# Altium footprint library Mechanical_3D.PcbLib: 98 footprints (part 3 of 7)
Each footprint in its own frame and in the unit in brackets; x right, y up, seen from the top. Pads: shape width x height; smd on the part's side, far side on the other; paste and mask are expansions set on the pad; w line width, h text height; cw(c..) or ccw(c..) is an arc to the next point about the centre after c.
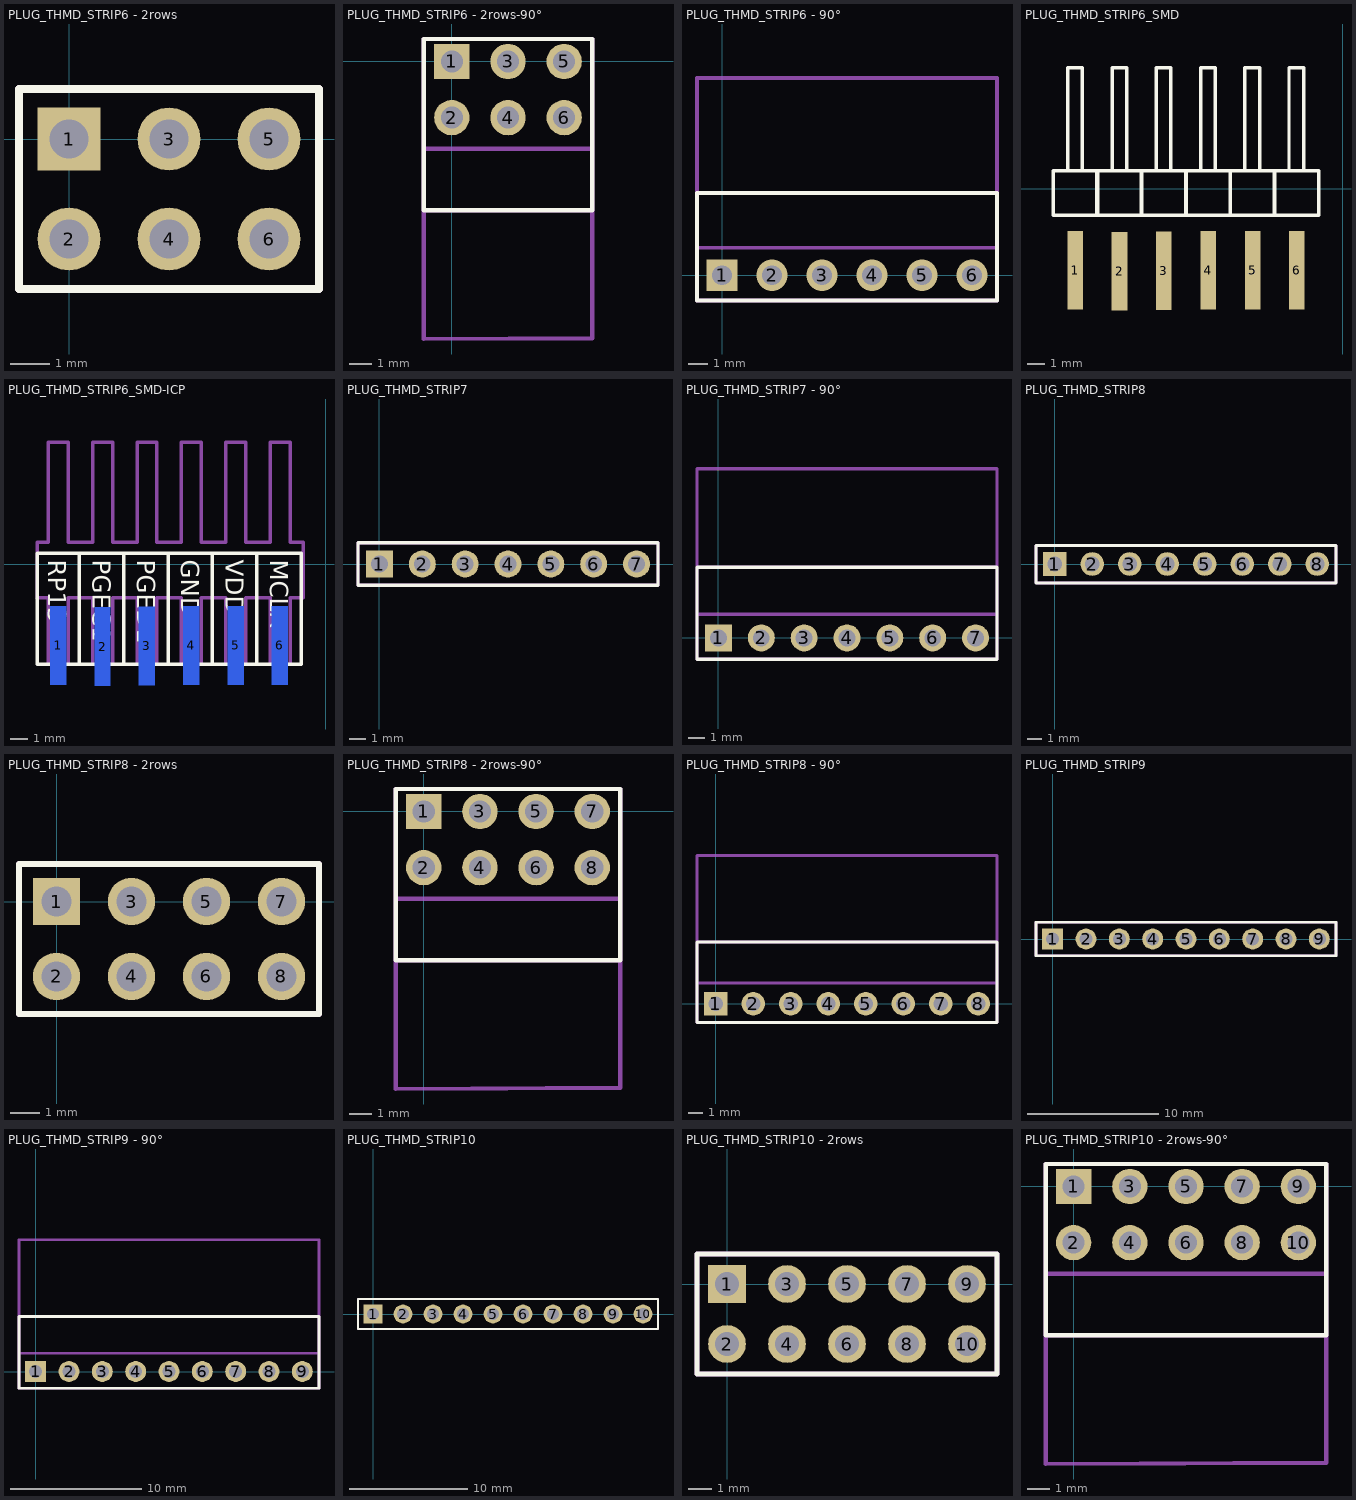
[diagram p2: the footprints below, top view; thin cyan lines are the x and y axes]

## PLUG_THMD_STRIP6 - 2rows [mm]
pads (6):
  rect 1.6x1.6 / inner round 1.524 / far side rect 1.6x1.6 hole 1 paste+0 mask+0: 1(0,0)
  round 1.6 / inner round 1.524 / far side round 1.6 hole 1 paste+0 mask+0: 2(0,-2.54) 3(2.54,0) 4(2.54,-2.54) 5(5.08,0) 6(5.08,-2.54)
Top Overlay:
  lines w0.203: -1.27,-3.81 -1.27,1.27 6.35,1.27 6.35,-3.81 -1.27,-3.81
Mechanical 13:
  lines w0.203: -1.27,-3.81 -1.27,1.27 6.35,1.27 6.35,-3.81 -1.27,-3.81
  text "1" at -2.156,-0.448 h0.95
3D body "Stripline_2row.stp": height 8.57, standoff -2.97, extent 3.81,-3.81 6.35,1.27
3D body "Stripline_2row.stp": height 8.57, standoff -2.97, extent -1.27,-3.81 1.27,1.27
3D body "Stripline_2row.stp": height 8.57, standoff -2.97, extent 1.27,-3.81 3.81,1.27

## PLUG_THMD_STRIP6 - 2rows-90° [mm]
pads (6):
  rect 1.6x1.6 / inner round 1.524 / far side rect 1.6x1.6 hole 1 paste+0 mask+0: 1(0,0)
  round 1.6 / inner round 1.524 / far side round 1.6 hole 1 paste+0 mask+0: 2(0,-2.54) 3(2.54,0) 4(2.54,-2.54) 5(5.08,0) 6(5.08,-2.54)
Top Overlay:
  lines w0.203: -1.27,-6.731 6.35,-6.731 6.35,1.016 -1.27,1.016 -1.27,-6.731
Mechanical 13:
  lines w0.2: -1.27,-6.731 6.35,-6.731 6.35,-3.937 -1.27,-3.937
  text "1" at -2.156,-0.448 h0.95
Mechanical 15:
  lines w0.203: -1.27,-12.548 6.35,-12.509 6.35,1.016 -1.27,1.016 -1.27,-12.548
3D body "Stripline_2row90_deg.stp": height 5.14, standoff -2.94, extent -1.27,-12.57 1.27,0.33
3D body "Stripline_2row90_deg.stp": height 5.14, standoff -2.94, extent 1.27,-12.57 3.81,0.33
3D body "Stripline_2row90_deg.stp": height 5.14, standoff -2.94, extent 3.81,-12.57 6.35,0.33

## PLUG_THMD_STRIP6 - 90° [mm]
pads (6):
  rect 1.6x1.6 / inner round 1.524 / far side rect 1.6x1.6 hole 1 paste+0 mask+0: 1(0,0)
  round 1.6 / inner round 1.524 / far side round 1.6 hole 1 paste+0 mask+0: 2(2.54,0) 3(5.08,0) 4(7.62,0) 5(10.16,0) 6(12.7,0)
Top Overlay:
  lines w0.203: -1.27,1.27 -1.27,-1.27 ; 3.81,-1.27 -1.27,-1.27 ; -1.27,-1.27 -1.27,4.191 13.97,4.191 13.97,-1.27 -1.27,-1.27
Mechanical 13:
  lines w0.2: -1.27,1.397 -1.27,4.191 13.97,4.191 13.97,1.397 -1.27,1.397
  text "1" at -2.156,-0.448 h0.95
Mechanical 15:
  lines w0.203: -1.27,-1.27 -1.27,10.033 13.97,10.033 13.97,-1.27 -1.27,-1.27
3D body "Stripline_1row90_deg.stp": height 2.54, standoff -3, extent 11.43,-0.354 13.97,10.006
3D body "Stripline_1row90_deg.stp": height 2.54, standoff -3, extent 8.89,-0.354 11.43,10.006
3D body "Stripline_1row90_deg.stp": height 2.54, standoff -3, extent 6.35,-0.354 8.89,10.006
3D body "Stripline_1row90_deg.stp": height 2.54, standoff -3, extent 3.81,-0.354 6.35,10.006
3D body "Stripline_1row90_deg.stp": height 2.54, standoff -3, extent 1.27,-0.354 3.81,10.006
3D body "Stripline_1row90_deg.stp": height 2.54, standoff -3, extent -1.27,-0.354 1.27,10.006

## PLUG_THMD_STRIP6_SMD [mm] "2,54mm pitch"
pads (6):
  rect 0.9x4.5 smd mask+0.05: 1(-15.3,-4.65) 2(-12.77,-4.71) 3(-10.24,-4.68) 4(-7.69,-4.65) 5(-5.15,-4.65) 6(-2.63,-4.65)
Top Overlay:
  lines w0.2: -16.57,-1.52 -14.06,-1.52 -14.06,1.04 -16.57,1.04 ; -15.74,1.04 -15.74,6.94 -14.9,6.94 -14.9,1.14 ; -14.03,-1.52 -11.52,-1.52 -11.52,1.04 -14.03,1.04 ; -13.2,1.04 -13.2,6.94 -12.36,6.94 -12.36,1.14 ; -11.5,-1.52 -8.99,-1.52 -8.99,1.04 -11.5,1.04 ; -10.67,1.04 -10.67,6.94 -9.83,6.94 -9.83,1.14 ; -8.95,-1.52 -6.44,-1.52 -6.44,1.04 -8.95,1.04 ; -8.12,1.04 -8.12,6.94 -7.28,6.94 -7.28,1.14 ; -6.42,-1.52 -3.91,-1.52 -3.91,1.04 -6.42,1.04 ; -5.59,1.04 -5.59,6.94 -4.75,6.94 -4.75,1.14 ; -3.92,-1.52 -3.92,1.04 ; -3.9,-1.52 -1.39,-1.52 ; -3.9,1.04 -1.39,1.04 ; -3.07,1.04 -3.07,6.94 -2.23,6.94 -2.23,1.14 ; -1.36,-1.52 -1.36,1.04
  lines w0.203: -16.57,-1.52 -16.57,1.04 ; -14.03,-1.52 -14.03,1.04 ; -11.5,-1.52 -11.5,1.04 ; -8.95,-1.52 -8.95,1.04 ; -6.42,-1.52 -6.42,1.04 ; -3.9,-1.52 -3.9,1.04

## PLUG_THMD_STRIP6_SMD-ICP [mm] "2,54mm pitch"
pads (6):
  rect 0.9x4.5 smd far side mask+0.05: 1(-15.3,-4.65) 2(-12.77,-4.71) 3(-10.24,-4.68) 4(-7.69,-4.65) 5(-5.15,-4.65) 6(-2.63,-4.65)
Top Overlay:
  lines w0.2: -14.097,-5.715 -14.097,0.635 ; -11.557,-5.715 -11.557,0.635 ; -9.017,-5.715 -9.017,0.635 ; -6.477,-5.715 -6.477,0.635 ; -3.937,-5.715 -3.937,0.635 ; -16.51,-5.715 -1.397,-5.715 -1.397,0.635 -16.51,0.635 -16.51,-5.715
  text "RP13" at -15.875,0.254 h1.02
  text "PGEC1" at -13.335,0.254 h1.02
  text "PGED1" at -10.795,0.254 h1.02
  text "GND" at -8.255,0.254 h1.02
  text "VDD" at -5.715,0.254 h1.02
  text "MCLR" at -3.175,0.254 h1.02
Bottom Overlay:
  lines w0.2: -16.57,-1.52 -14.06,-1.52 -14.06,1.04 -16.57,1.04 ; -14.03,-1.52 -11.52,-1.52 -11.52,1.04 -14.03,1.04 ; -11.5,-1.52 -8.99,-1.52 -8.99,1.04 -11.5,1.04 ; -8.95,-1.52 -6.44,-1.52 -6.44,1.04 -8.95,1.04 ; -6.42,-1.52 -3.91,-1.52 -3.91,1.04 -6.42,1.04 ; -3.92,-1.52 -3.92,1.04 ; -3.9,-1.52 -1.39,-1.52 ; -3.9,1.04 -1.39,1.04 ; -1.36,-1.52 -1.36,1.04
  lines w0.203: -16.57,-1.52 -16.57,1.04 ; -14.03,-1.52 -14.03,1.04 ; -11.5,-1.52 -11.5,1.04 ; -8.95,-1.52 -8.95,1.04 ; -6.42,-1.52 -6.42,1.04 ; -3.9,-1.52 -3.9,1.04
Mechanical 13:
  lines w0.2: -16.51,-1.905 -15.875,-1.905 -15.875,-5.715 -14.732,-5.715 -14.732,-1.905 -13.335,-1.905 -13.335,-5.715 -12.192,-5.715 -12.192,-1.905 -10.795,-1.905 -10.795,-5.715 -9.652,-5.715 -9.652,-1.905 -8.255,-1.905 -8.255,-5.715 -7.112,-5.715 -7.112,-1.905 -5.715,-1.905 -5.715,-5.715 -4.572,-5.715 -4.572,-1.905 -3.175,-1.905 -3.175,-5.715 -2.032,-5.715 -2.032,-1.905 -1.27,-1.905 -1.27,1.27 -2.032,1.27 -2.032,6.985 -3.175,6.985 -3.175,1.27 -4.572,1.27 -4.572,6.985 -5.715,6.985 -5.715,1.27 -7.112,1.27 -7.112,6.985 -8.255,6.985 -8.255,1.27 -9.652,1.27 -9.652,6.985 -10.795,6.985 -10.795,1.27 -12.192,1.27 -12.192,6.985 -13.335,6.985 -13.335,1.27 -14.732,1.27 -14.732,6.985 -15.875,6.985 -15.875,1.27 -16.51,1.27 -16.51,-1.905

## PLUG_THMD_STRIP7 [mm]
pads (7):
  rect 1.6x1.6 / inner round 1.524 / far side rect 1.6x1.6 hole 1 paste+0 mask+0: 1(0,0)
  round 1.6 / inner round 1.524 / far side round 1.6 hole 1 paste+0 mask+0: 2(2.54,0) 3(5.08,0) 4(7.62,0) 5(10.16,0) 6(12.7,0) 7(15.24,0)
Top Overlay:
  lines w0.203: -1.27,-1.27 16.51,-1.27 16.51,1.27 -1.27,1.27 -1.27,-1.27
Mechanical 13:
  lines w0.203: -1.27,-1.27 16.51,-1.27 16.51,1.27 -1.27,1.27 -1.27,-1.27
  text "1" at -2.156,-0.448 h0.95
3D body "Stripline_1.stp": height 8.57, standoff -2.97, extent 11.43,-1.27 13.97,1.27
3D body "Stripline_1.stp": height 8.57, standoff -2.97, extent -1.27,-1.27 1.27,1.27
3D body "Stripline_1.stp": height 8.57, standoff -2.97, extent 1.27,-1.27 3.81,1.27
3D body "Stripline_1.stp": height 8.57, standoff -2.97, extent 3.81,-1.27 6.35,1.27
3D body "Stripline_1.stp": height 8.57, standoff -2.97, extent 6.35,-1.27 8.89,1.27
3D body "Stripline_1.stp": height 8.57, standoff -2.97, extent 8.89,-1.27 11.43,1.27
3D body "Stripline_1.stp": height 8.57, standoff -2.97, extent 13.97,-1.27 16.51,1.27

## PLUG_THMD_STRIP7 - 90° [mm]
pads (7):
  rect 1.6x1.6 / inner round 1.524 / far side rect 1.6x1.6 hole 1 paste+0 mask+0: 1(0,0)
  round 1.6 / inner round 1.524 / far side round 1.6 hole 1 paste+0 mask+0: 2(2.54,0) 3(5.08,0) 4(7.62,0) 5(10.16,0) 6(12.7,0) 7(15.24,0)
Top Overlay:
  lines w0.203: -1.27,1.27 -1.27,-1.27 ; 3.81,-1.27 -1.27,-1.27 ; -1.27,-1.27 -1.27,4.191 16.51,4.191 16.51,-1.27 -1.27,-1.27
Mechanical 13:
  lines w0.2: -1.27,1.397 -1.27,4.191 16.51,4.191 16.51,1.397 -1.27,1.397
  text "1" at -2.156,-0.448 h0.95
Mechanical 15:
  lines w0.203: -1.27,-1.27 -1.27,10.033 16.51,10.033 16.51,-1.27 -1.27,-1.27
3D body "Stripline_1row90_deg.stp": height 2.54, standoff -3, extent 13.97,-0.354 16.51,10.006
3D body "Stripline_1row90_deg.stp": height 2.54, standoff -3, extent 11.43,-0.354 13.97,10.006
3D body "Stripline_1row90_deg.stp": height 2.54, standoff -3, extent 8.89,-0.354 11.43,10.006
3D body "Stripline_1row90_deg.stp": height 2.54, standoff -3, extent 6.35,-0.354 8.89,10.006
3D body "Stripline_1row90_deg.stp": height 2.54, standoff -3, extent 3.81,-0.354 6.35,10.006
3D body "Stripline_1row90_deg.stp": height 2.54, standoff -3, extent 1.27,-0.354 3.81,10.006
3D body "Stripline_1row90_deg.stp": height 2.54, standoff -3, extent -1.27,-0.354 1.27,10.006

## PLUG_THMD_STRIP8 [mm]
pads (8):
  rect 1.6x1.6 / inner round 1.524 / far side rect 1.6x1.6 hole 1 paste+0 mask+0: 1(0,0)
  round 1.6 / inner round 1.524 / far side round 1.6 hole 1 paste+0 mask+0: 2(2.54,0) 3(5.08,0) 4(7.62,0) 5(10.16,0) 6(12.7,0) 7(15.24,0) 8(17.78,0)
Top Overlay:
  lines w0.203: -1.27,-1.27 -1.27,1.27 19.05,1.27 19.05,-1.27 -1.27,-1.27
Mechanical 13:
  lines w0.203: -1.27,-1.27 -1.27,1.27 19.05,1.27 19.05,-1.27 -1.27,-1.27
  text "1" at -2.156,-0.448 h0.95
3D body "Stripline_1.stp": height 8.57, standoff -2.97, extent 13.97,-1.27 16.51,1.27
3D body "Stripline_1.stp": height 8.57, standoff -2.97, extent 8.89,-1.27 11.43,1.27
3D body "Stripline_1.stp": height 8.57, standoff -2.97, extent 6.35,-1.27 8.89,1.27
3D body "Stripline_1.stp": height 8.57, standoff -2.97, extent 3.81,-1.27 6.35,1.27
3D body "Stripline_1.stp": height 8.57, standoff -2.97, extent 1.27,-1.27 3.81,1.27
3D body "Stripline_1.stp": height 8.57, standoff -2.97, extent -1.27,-1.27 1.27,1.27
3D body "Stripline_1.stp": height 8.57, standoff -2.97, extent 11.43,-1.27 13.97,1.27
3D body "Stripline_1.stp": height 8.57, standoff -2.97, extent 16.51,-1.27 19.05,1.27

## PLUG_THMD_STRIP8 - 2rows [mm]
pads (8):
  rect 1.6x1.6 / inner round 1.524 / far side rect 1.6x1.6 hole 1 paste+0 mask+0: 1(0,0)
  round 1.6 / inner round 1.524 / far side round 1.6 hole 1 paste+0 mask+0: 2(0,-2.54) 3(2.54,0) 4(2.54,-2.54) 5(5.08,0) 6(5.08,-2.54) 7(7.62,0) 8(7.62,-2.54)
Top Overlay:
  lines w0.203: -1.27,-3.81 -1.27,1.27 8.89,1.27 8.89,-3.81 -1.27,-3.81
Mechanical 13:
  lines w0.203: -1.27,-3.81 -1.27,1.27 8.89,1.27 8.89,-3.81 -1.27,-3.81
  text "1" at -2.156,-0.448 h0.95
3D body "Stripline_2row.stp": height 8.57, standoff -2.97, extent 3.81,-3.81 6.35,1.27
3D body "Stripline_2row.stp": height 8.57, standoff -2.97, extent -1.27,-3.81 1.27,1.27
3D body "Stripline_2row.stp": height 8.57, standoff -2.97, extent 1.27,-3.81 3.81,1.27
3D body "Stripline_2row.stp": height 8.57, standoff -2.97, extent 6.35,-3.81 8.89,1.27

## PLUG_THMD_STRIP8 - 2rows-90° [mm]
pads (8):
  rect 1.6x1.6 / inner round 1.524 / far side rect 1.6x1.6 hole 1 paste+0 mask+0: 1(0,0)
  round 1.6 / inner round 1.524 / far side round 1.6 hole 1 paste+0 mask+0: 2(0,-2.54) 3(2.54,0) 4(2.54,-2.54) 5(5.08,0) 6(5.08,-2.54) 7(7.62,0) 8(7.62,-2.54)
Top Overlay:
  lines w0.203: -1.27,-6.731 -1.27,1.016 8.89,1.016 8.89,-6.731 -1.27,-6.731
Mechanical 13:
  lines w0.2: -1.27,-6.731 8.89,-6.731 8.89,-3.937 -1.27,-3.937 -1.27,-6.731
  text "1" at -2.156,-0.448 h0.95
Mechanical 15:
  lines w0.203: -1.27,-12.548 -1.27,1.016 8.89,1.016 8.89,-12.497 -1.27,-12.548
3D body "Stripline_2row90_deg.stp": height 5.14, standoff -2.94, extent 3.81,-12.57 6.35,0.33
3D body "Stripline_2row90_deg.stp": height 5.14, standoff -2.94, extent 1.27,-12.57 3.81,0.33
3D body "Stripline_2row90_deg.stp": height 5.14, standoff -2.94, extent -1.27,-12.57 1.27,0.33
3D body "Stripline_2row90_deg.stp": height 5.14, standoff -2.94, extent 6.35,-12.57 8.89,0.33

## PLUG_THMD_STRIP8 - 90° [mm]
pads (8):
  rect 1.6x1.6 / inner round 1.524 / far side rect 1.6x1.6 hole 1 paste+0 mask+0: 1(0,0)
  round 1.6 / inner round 1.524 / far side round 1.6 hole 1 paste+0 mask+0: 2(2.54,0) 3(5.08,0) 4(7.62,0) 5(10.16,0) 6(12.7,0) 7(15.24,0) 8(17.78,0)
Top Overlay:
  lines w0.203: -1.27,1.27 -1.27,-1.27 ; 3.81,-1.27 -1.27,-1.27 ; -1.27,-1.27 19.05,-1.27 19.05,4.191 -1.27,4.191 -1.27,-1.27
Mechanical 13:
  lines w0.2: -1.27,1.397 19.05,1.397 19.05,4.191 -1.27,4.191
  text "1" at -2.156,-0.448 h0.95
Mechanical 15:
  lines w0.203: -1.27,-1.27 19.05,-1.27 19.05,10.033 -1.27,10.033 -1.27,-1.27
3D body "Stripline_1row90_deg.stp": height 2.54, standoff -3, extent -1.27,-0.354 1.27,10.006
3D body "Stripline_1row90_deg.stp": height 2.54, standoff -3, extent 1.27,-0.354 3.81,10.006
3D body "Stripline_1row90_deg.stp": height 2.54, standoff -3, extent 3.81,-0.354 6.35,10.006
3D body "Stripline_1row90_deg.stp": height 2.54, standoff -3, extent 6.35,-0.354 8.89,10.006
3D body "Stripline_1row90_deg.stp": height 2.54, standoff -3, extent 8.89,-0.354 11.43,10.006
3D body "Stripline_1row90_deg.stp": height 2.54, standoff -3, extent 11.43,-0.354 13.97,10.006
3D body "Stripline_1row90_deg.stp": height 2.54, standoff -3, extent 13.97,-0.354 16.51,10.006
3D body "Stripline_1row90_deg.stp": height 2.54, standoff -3, extent 16.51,-0.354 19.05,10.006

## PLUG_THMD_STRIP9 [mm]
pads (9):
  rect 1.6x1.6 / inner round 1.524 / far side rect 1.6x1.6 hole 1 paste+0 mask+0: 1(0,0)
  round 1.6 / inner round 1.524 / far side round 1.6 hole 1 paste+0 mask+0: 2(2.54,0) 3(5.08,0) 4(7.62,0) 5(10.16,0) 6(12.7,0) 7(15.24,0) 8(17.78,0) 9(20.32,0)
Top Overlay:
  lines w0.203: -1.27,-1.27 21.59,-1.27 21.59,1.27 -1.27,1.27 -1.27,-1.27
Mechanical 13:
  lines w0.203: -1.27,-1.27 21.59,-1.27 21.59,1.27 -1.27,1.27 -1.27,-1.27
  text "1" at -2.156,-0.448 h0.95
3D body "Stripline_1.stp": height 8.57, standoff -2.97, extent 16.51,-1.27 19.05,1.27
3D body "Stripline_1.stp": height 8.57, standoff -2.97, extent 11.43,-1.27 13.97,1.27
3D body "Stripline_1.stp": height 8.57, standoff -2.97, extent -1.27,-1.27 1.27,1.27
3D body "Stripline_1.stp": height 8.57, standoff -2.97, extent 1.27,-1.27 3.81,1.27
3D body "Stripline_1.stp": height 8.57, standoff -2.97, extent 3.81,-1.27 6.35,1.27
3D body "Stripline_1.stp": height 8.57, standoff -2.97, extent 6.35,-1.27 8.89,1.27
3D body "Stripline_1.stp": height 8.57, standoff -2.97, extent 8.89,-1.27 11.43,1.27
3D body "Stripline_1.stp": height 8.57, standoff -2.97, extent 13.97,-1.27 16.51,1.27
3D body "Stripline_1.stp": height 8.57, standoff -2.97, extent 19.05,-1.27 21.59,1.27

## PLUG_THMD_STRIP9 - 90° [mm]
pads (9):
  rect 1.6x1.6 / inner round 1.524 / far side rect 1.6x1.6 hole 1 paste+0 mask+0: 1(0,0)
  round 1.6 / inner round 1.524 / far side round 1.6 hole 1 paste+0 mask+0: 2(2.54,0) 3(5.08,0) 4(7.62,0) 5(10.16,0) 6(12.7,0) 7(15.24,0) 8(17.78,0) 9(20.32,0)
Top Overlay:
  lines w0.203: -1.27,1.27 -1.27,-1.27 ; 3.81,-1.27 -1.27,-1.27 ; -1.27,-1.27 21.59,-1.27 21.59,4.191 -1.27,4.191 -1.27,-1.27
Mechanical 13:
  lines w0.2: -1.27,1.397 -1.27,4.191 21.59,4.191 21.59,1.397 -1.27,1.397
  text "1" at -2.156,-0.448 h0.95
Mechanical 15:
  lines w0.203: -1.27,-1.27 21.59,-1.27 21.59,10.033 -1.27,10.033 -1.27,-1.27
3D body "Stripline_1row90_deg.stp": height 2.54, standoff -3, extent 19.05,-0.354 21.59,10.006
3D body "Stripline_1row90_deg.stp": height 2.54, standoff -3, extent -1.27,-0.354 1.27,10.006
3D body "Stripline_1row90_deg.stp": height 2.54, standoff -3, extent 1.27,-0.354 3.81,10.006
3D body "Stripline_1row90_deg.stp": height 2.54, standoff -3, extent 3.81,-0.354 6.35,10.006
3D body "Stripline_1row90_deg.stp": height 2.54, standoff -3, extent 6.35,-0.354 8.89,10.006
3D body "Stripline_1row90_deg.stp": height 2.54, standoff -3, extent 8.89,-0.354 11.43,10.006
3D body "Stripline_1row90_deg.stp": height 2.54, standoff -3, extent 11.43,-0.354 13.97,10.006
3D body "Stripline_1row90_deg.stp": height 2.54, standoff -3, extent 13.97,-0.354 16.51,10.006
3D body "Stripline_1row90_deg.stp": height 2.54, standoff -3, extent 16.51,-0.354 19.05,10.006

## PLUG_THMD_STRIP10 [mm]
pads (10):
  rect 1.6x1.6 / inner round 1.524 / far side rect 1.6x1.6 hole 1 paste+0 mask+0: 1(0,0)
  round 1.6 / inner round 1.524 / far side round 1.6 hole 1 paste+0 mask+0: 2(2.54,0) 3(5.08,0) 4(7.62,0) 5(10.16,0) 6(12.7,0) 7(15.24,0) 8(17.78,0) 9(20.32,0) 10(22.86,0)
Top Overlay:
  lines w0.203: -1.27,-1.27 -1.27,1.27 24.13,1.27 24.13,-1.27 -1.27,-1.27
Mechanical 13:
  lines w0.203: -1.27,-1.27 -1.27,1.27 24.13,1.27 24.13,-1.27 -1.27,-1.27
  text "1" at -2.156,-0.448 h0.95
3D body "Stripline_1.stp": height 8.57, standoff -2.97, extent 19.05,-1.27 21.59,1.27
3D body "Stripline_1.stp": height 8.57, standoff -2.97, extent 13.97,-1.27 16.51,1.27
3D body "Stripline_1.stp": height 8.57, standoff -2.97, extent 8.89,-1.27 11.43,1.27
3D body "Stripline_1.stp": height 8.57, standoff -2.97, extent 6.35,-1.27 8.89,1.27
3D body "Stripline_1.stp": height 8.57, standoff -2.97, extent 3.81,-1.27 6.35,1.27
3D body "Stripline_1.stp": height 8.57, standoff -2.97, extent 1.27,-1.27 3.81,1.27
3D body "Stripline_1.stp": height 8.57, standoff -2.97, extent -1.27,-1.27 1.27,1.27
3D body "Stripline_1.stp": height 8.57, standoff -2.97, extent 11.43,-1.27 13.97,1.27
3D body "Stripline_1.stp": height 8.57, standoff -2.97, extent 16.51,-1.27 19.05,1.27
3D body "Stripline_1.stp": height 8.57, standoff -2.97, extent 21.59,-1.27 24.13,1.27

## PLUG_THMD_STRIP10 - 2rows [mm]
pads (10):
  rect 1.6x1.6 / inner round 1.524 / far side rect 1.6x1.6 hole 1 paste+0 mask+0: 1(0,0)
  round 1.6 / inner round 1.524 / far side round 1.6 hole 1 paste+0 mask+0: 2(0,-2.54) 3(2.54,0) 4(2.54,-2.54) 5(5.08,0) 6(5.08,-2.54) 7(7.62,0) 8(7.62,-2.54) 9(10.16,0) 10(10.16,-2.54)
Top Overlay:
  lines w0.203: -1.27,-3.81 -1.27,1.27 11.43,1.27 11.43,-3.81 -1.27,-3.81
Mechanical 13:
  lines w0.203: -1.27,-3.81 -1.27,1.27 11.43,1.27 11.43,-3.81 -1.27,-3.81
  text "1" at -2.156,-0.448 h0.95
3D body "Stripline_2row.stp": height 8.57, standoff -2.97, extent 8.89,-3.81 11.43,1.27
3D body "Stripline_2row.stp": height 8.57, standoff -2.97, extent 3.81,-3.81 6.35,1.27
3D body "Stripline_2row.stp": height 8.57, standoff -2.97, extent -1.27,-3.81 1.27,1.27
3D body "Stripline_2row.stp": height 8.57, standoff -2.97, extent 1.27,-3.81 3.81,1.27
3D body "Stripline_2row.stp": height 8.57, standoff -2.97, extent 6.35,-3.81 8.89,1.27

## PLUG_THMD_STRIP10 - 2rows-90° [mm]
pads (10):
  rect 1.6x1.6 / inner round 1.524 / far side rect 1.6x1.6 hole 1 paste+0 mask+0: 1(0,0)
  round 1.6 / inner round 1.524 / far side round 1.6 hole 1 paste+0 mask+0: 2(0,-2.54) 3(2.54,0) 4(2.54,-2.54) 5(5.08,0) 6(5.08,-2.54) 7(7.62,0) 8(7.62,-2.54) 9(10.16,0) 10(10.16,-2.54)
Top Overlay:
  lines w0.203: -1.27,-6.731 -1.27,1.016 11.43,1.016 11.43,-6.731 -1.27,-6.731
Mechanical 13:
  lines w0.2: -1.27,-6.731 11.43,-6.731 11.43,-3.937 -1.27,-3.937 -1.27,-6.731
  text "1" at -2.156,-0.448 h0.95
Mechanical 15:
  lines w0.203: -1.27,-12.548 -1.27,1.016 11.43,1.016 11.43,-12.484 -1.27,-12.548
3D body "Stripline_2row90_deg.stp": height 5.14, standoff -2.94, extent 8.89,-12.57 11.43,0.33
3D body "Stripline_2row90_deg.stp": height 5.14, standoff -2.94, extent 3.81,-12.57 6.35,0.33
3D body "Stripline_2row90_deg.stp": height 5.14, standoff -2.94, extent 1.27,-12.57 3.81,0.33
3D body "Stripline_2row90_deg.stp": height 5.14, standoff -2.94, extent -1.27,-12.57 1.27,0.33
3D body "Stripline_2row90_deg.stp": height 5.14, standoff -2.94, extent 6.35,-12.57 8.89,0.33